# EAGLE library part UCC28700 (library Particle-v2)
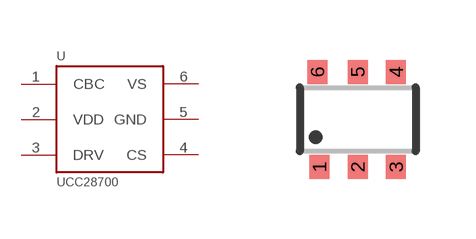
[diagram p0: symbol with the pads of DBV; footprint DBV]

Designator prefix -

## UCC28700A  [DBV]
1  CBC
2  VDD
3  DRV
4  CS
5  GND
6  VS

## Footprint DBV (pad centres in mm)
smd 0.5 x 0.6: 1 -0.96,-1.19; 2 0,-1.19; 3 0.96,-1.19; 4 0.96,1.19; 5 0,1.19; 6 -1.01,1.19